# Altium schematic symbol library IC_BUF_ESD_CD74HC4050MT.SchLib: 1 symbol
Pins are listed as number, name and electrical type; pins without a type are passive.

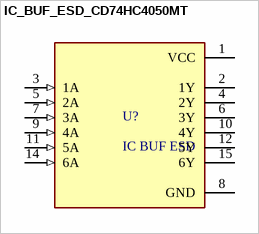
[diagram p0: symbol IC_BUF_ESD_CD74HC4050MT]

## IC_BUF_ESD_CD74HC4050MT
designator U?, comment IC BUF ESD
Buffer, Non-Inverting 6 Element 1 Bit per Element Push-Pull Output 16-SOIC; MF: Texas Instruments; MP: CD74HC4050MT; Value: *; Price: None; Availability: In Stock; SnapEDA_Link: https://www.snapeda.com/parts/CD74HC4050MT/Texas+Instruments/view-part/?ref=snap; Check_prices: https://www.snapeda.com/parts/CD74HC4050MT/Texas+Instruments/view-part/?ref=eda; Purchase-URL: https://pricing.snapeda.com/search/part/CD74HC4050MT/?ref=eda; Package: SOIC-16 Texas Instruments; Supplier 1: Digi-Key; Supplier Part Number 1: 296-14529-1-ND
footprint IC_BUF_ESD_CD74HC4050MT
pins: 1 VCC, 2 1Y, 3 1A (in), 4 2Y, 5 2A (in), 6 3Y, 7 3A (in), 8 GND (power), 9 4A (in), 10 4Y, 11 5A (in), 12 5Y, 14 6A (in), 15 6Y